# Altium schematic symbol library WE-SPXO.SchLib: 233 symbols (part 3 of 4)
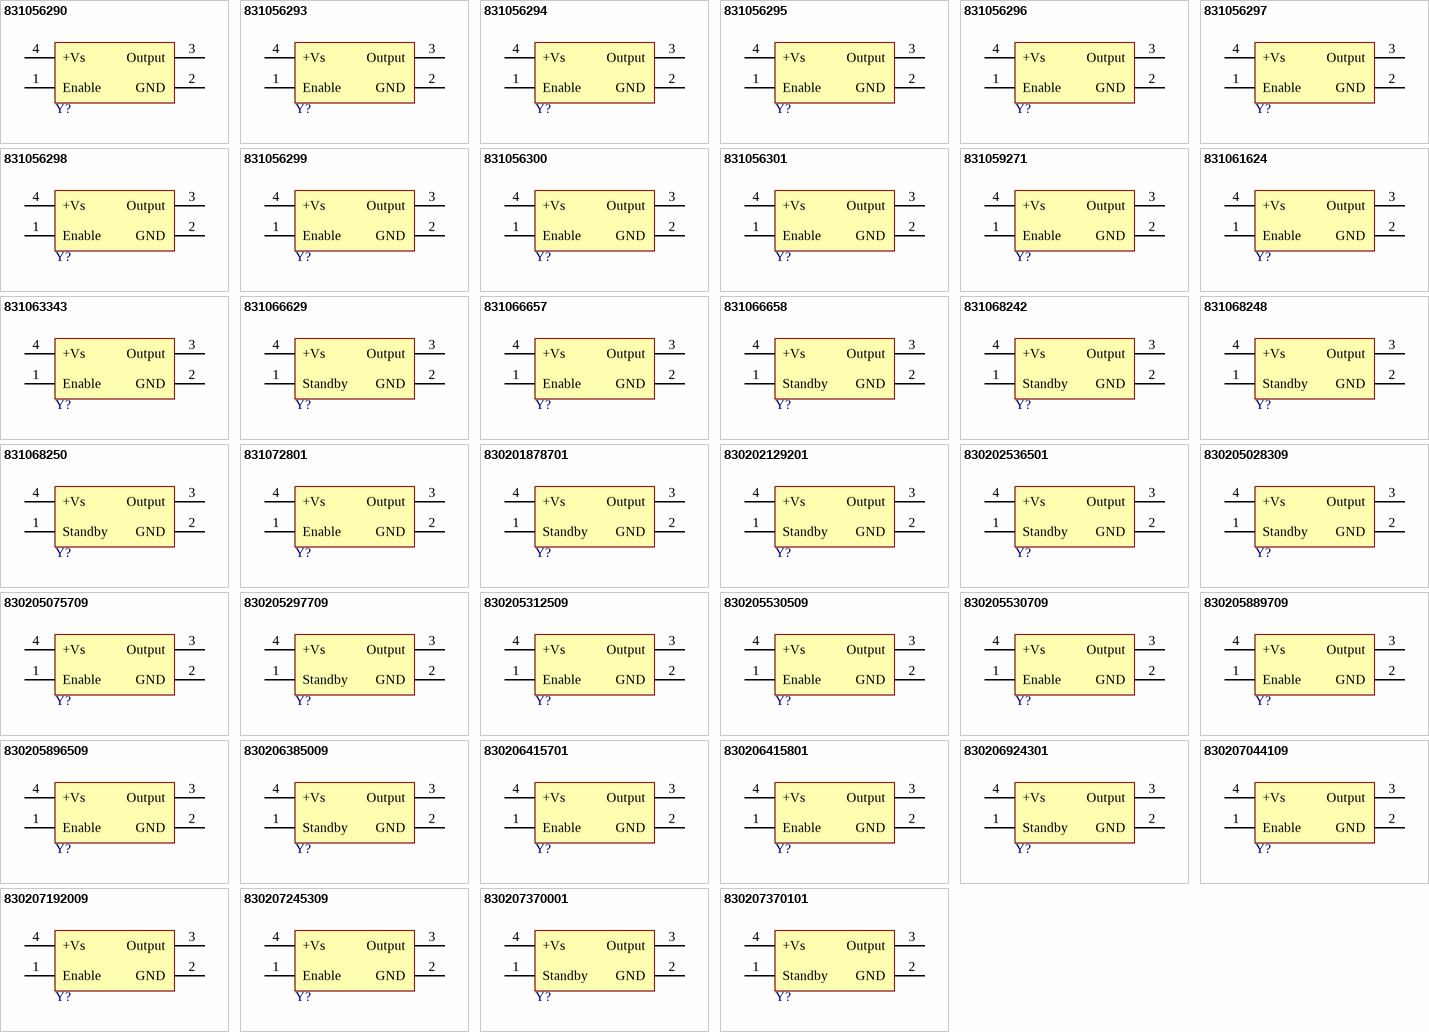
[diagram p7: symbols 831056290 to 830207370101]

## 831056294
designator Y?, comment 24MHz, 3.3V  (value not drawn)
WE-SPXO Simple Packaged Quartz Oscillator, SMT, IQXO-791, 24MHz, 3.3V; Manufacturer Part Number: 831056294; Manufacturer: Wurth Elektronik; Frequency Stability: +/-50ppm; ComponentLink1Description: Website Link; ComponentLink1URL: https://www.we-online.com/redexpert/article/831056294?ad; ComponentLink2Description: Datasheet Link; ComponentLink2URL: https://www.we-online.com/redexpert/spec/831056294?ad; Category: Oscillators; Match Code: WE-SPXO; Mount: Surface Mount; Operating Temperature Max: 85°C; Operating Temperature Min: -40°C; Packaging: Tape and Reel; Case/Size Code: IQXO-791; Length: 2.5mm; Width: 2mm; Height: 1mm; Frequency: 24MHz; Supply Voltage: 3.3V
footprint WE-SPXO_IQXO-791
pins: 1 Enable, 2 GND, 3 Output, 4 +Vs

## 831056295
designator Y?, comment 24.576MHz, 3.3V  (value not drawn)
WE-SPXO Simple Packaged Quartz Oscillator, SMT, IQXO-791, 24.576MHz, 3.3V; Manufacturer Part Number: 831056295; Manufacturer: Wurth Elektronik; Frequency Stability: +/-50ppm; ComponentLink1Description: Website Link; ComponentLink1URL: https://www.we-online.com/redexpert/article/831056295?ad; ComponentLink2Description: Datasheet Link; ComponentLink2URL: https://www.we-online.com/redexpert/spec/831056295?ad; Category: Oscillators; Match Code: WE-SPXO; Mount: Surface Mount; Operating Temperature Max: 85°C; Operating Temperature Min: -40°C; Packaging: Tape and Reel; Case/Size Code: IQXO-791; Length: 2.5mm; Width: 2mm; Height: 1mm; Frequency: 24.576MHz; Supply Voltage: 3.3V
footprint WE-SPXO_IQXO-791
pins: 1 Enable, 2 GND, 3 Output, 4 +Vs

## 831056296
designator Y?, comment 25MHz, 3.3V  (value not drawn)
WE-SPXO Simple Packaged Quartz Oscillator, SMT, IQXO-791, 25MHz, 3.3V; Manufacturer Part Number: 831056296; Manufacturer: Wurth Elektronik; Frequency Stability: +/-50ppm; ComponentLink1Description: Website Link; ComponentLink1URL: https://www.we-online.com/redexpert/article/831056296?ad; ComponentLink2Description: Datasheet Link; ComponentLink2URL: https://www.we-online.com/redexpert/spec/831056296?ad; Category: Oscillators; Match Code: WE-SPXO; Mount: Surface Mount; Operating Temperature Max: 85°C; Operating Temperature Min: -40°C; Packaging: Tape and Reel; Case/Size Code: IQXO-791; Length: 2.5mm; Width: 2mm; Height: 1mm; Frequency: 25MHz; Supply Voltage: 3.3V
footprint WE-SPXO_IQXO-791
pins: 1 Enable, 2 GND, 3 Output, 4 +Vs

## 831056297
designator Y?, comment 26MHz, 3.3V  (value not drawn)
WE-SPXO Simple Packaged Quartz Oscillator, SMT, IQXO-791, 26MHz, 3.3V; Manufacturer Part Number: 831056297; Manufacturer: Wurth Elektronik; Frequency Stability: +/-50ppm; ComponentLink1Description: Website Link; ComponentLink1URL: https://www.we-online.com/redexpert/article/831056297?ad; ComponentLink2Description: Datasheet Link; ComponentLink2URL: https://www.we-online.com/redexpert/spec/831056297?ad; Category: Oscillators; Match Code: WE-SPXO; Mount: Surface Mount; Operating Temperature Max: 85°C; Operating Temperature Min: -40°C; Packaging: Tape and Reel; Case/Size Code: IQXO-791; Length: 2.5mm; Width: 2mm; Height: 1mm; Frequency: 26MHz; Supply Voltage: 3.3V
footprint WE-SPXO_IQXO-791
pins: 1 Enable, 2 GND, 3 Output, 4 +Vs

## 831056298
designator Y?, comment 27MHz, 3.3V  (value not drawn)
WE-SPXO Simple Packaged Quartz Oscillator, SMT, IQXO-791, 27MHz, 3.3V; Manufacturer Part Number: 831056298; Manufacturer: Wurth Elektronik; Frequency Stability: +/-50ppm; ComponentLink1Description: Website Link; ComponentLink1URL: https://www.we-online.com/redexpert/article/831056298?ad; ComponentLink2Description: Datasheet Link; ComponentLink2URL: https://www.we-online.com/redexpert/spec/831056298?ad; Category: Oscillators; Match Code: WE-SPXO; Mount: Surface Mount; Operating Temperature Max: 85°C; Operating Temperature Min: -40°C; Packaging: Tape and Reel; Case/Size Code: IQXO-791; Length: 2.5mm; Width: 2mm; Height: 1mm; Frequency: 27MHz; Supply Voltage: 3.3V
footprint WE-SPXO_IQXO-791
pins: 1 Enable, 2 GND, 3 Output, 4 +Vs

## 831056299
designator Y?, comment 40MHz, 3.3V  (value not drawn)
WE-SPXO Simple Packaged Quartz Oscillator, SMT, IQXO-791, 40MHz, 3.3V; Manufacturer Part Number: 831056299; Manufacturer: Wurth Elektronik; Frequency Stability: +/-50ppm; ComponentLink1Description: Website Link; ComponentLink1URL: https://www.we-online.com/redexpert/article/831056299?ad; ComponentLink2Description: Datasheet Link; ComponentLink2URL: https://www.we-online.com/redexpert/spec/831056299?ad; Category: Oscillators; Match Code: WE-SPXO; Mount: Surface Mount; Operating Temperature Max: 85°C; Operating Temperature Min: -40°C; Packaging: Tape and Reel; Case/Size Code: IQXO-791; Length: 2.5mm; Width: 2mm; Height: 1mm; Frequency: 40MHz; Supply Voltage: 3.3V
footprint WE-SPXO_IQXO-791
pins: 1 Enable, 2 GND, 3 Output, 4 +Vs

## 831056300
designator Y?, comment 48MHz, 3.3V  (value not drawn)
WE-SPXO Simple Packaged Quartz Oscillator, SMT, IQXO-791, 48MHz, 3.3V; Manufacturer Part Number: 831056300; Manufacturer: Wurth Elektronik; Frequency Stability: +/-50ppm; ComponentLink1Description: Website Link; ComponentLink1URL: https://www.we-online.com/redexpert/article/831056300?ad; ComponentLink2Description: Datasheet Link; ComponentLink2URL: https://www.we-online.com/redexpert/spec/831056300?ad; Category: Oscillators; Match Code: WE-SPXO; Mount: Surface Mount; Operating Temperature Max: 85°C; Operating Temperature Min: -40°C; Packaging: Tape and Reel; Case/Size Code: IQXO-791; Length: 2.5mm; Width: 2mm; Height: 1mm; Frequency: 48MHz; Supply Voltage: 3.3V
footprint WE-SPXO_IQXO-791
pins: 1 Enable, 2 GND, 3 Output, 4 +Vs

## 831056301
designator Y?, comment 50MHz, 3.3V  (value not drawn)
WE-SPXO Simple Packaged Quartz Oscillator, SMT, IQXO-791, 50MHz, 3.3V; Manufacturer Part Number: 831056301; Manufacturer: Wurth Elektronik; Frequency Stability: +/-50ppm; ComponentLink1Description: Website Link; ComponentLink1URL: https://www.we-online.com/redexpert/article/831056301?ad; ComponentLink2Description: Datasheet Link; ComponentLink2URL: https://www.we-online.com/redexpert/spec/831056301?ad; Category: Oscillators; Match Code: WE-SPXO; Mount: Surface Mount; Operating Temperature Max: 85°C; Operating Temperature Min: -40°C; Packaging: Tape and Reel; Case/Size Code: IQXO-791; Length: 2.5mm; Width: 2mm; Height: 1mm; Frequency: 50MHz; Supply Voltage: 3.3V
footprint WE-SPXO_IQXO-791
pins: 1 Enable, 2 GND, 3 Output, 4 +Vs

## 831059271
designator Y?, comment 10MHz, 3.3V  (value not drawn)
WE-SPXO Simple Packaged Quartz Oscillator, SMT, CFPS-39, 10MHz, 3.3V; Manufacturer Part Number: 831059271; Manufacturer: Wurth Elektronik; Frequency Stability: +/-25ppm; ComponentLink1Description: Website Link; ComponentLink1URL: https://www.we-online.com/redexpert/article/831059271?ad; ComponentLink2Description: Datasheet Link; ComponentLink2URL: https://www.we-online.com/redexpert/spec/831059271?ad; Category: Oscillators; Match Code: WE-SPXO; Mount: Surface Mount; Operating Temperature Max: 85°C; Operating Temperature Min: -40°C; Packaging: Tape and Reel; Case/Size Code: CFPS-39; Length: 3.2mm; Width: 2.5mm; Height: 1.2mm; Frequency: 10MHz; Supply Voltage: 3.3V
footprint WE-SPXO_CFPS-39
pins: 1 Enable, 2 GND, 3 Output, 4 +Vs

## 831061624
designator Y?, comment 10MHz, 3.3V  (value not drawn)
WE-SPXO Simple Packaged Quartz Oscillator, SMT, IQXO-791, 10MHz, 3.3V; Manufacturer Part Number: 831061624; Manufacturer: Wurth Elektronik; Frequency Stability: +/-50ppm; ComponentLink1Description: Website Link; ComponentLink1URL: https://www.we-online.com/redexpert/article/831061624?ad; ComponentLink2Description: Datasheet Link; ComponentLink2URL: https://www.we-online.com/redexpert/spec/831061624?ad; Category: Oscillators; Match Code: WE-SPXO; Mount: Surface Mount; Operating Temperature Max: 85°C; Operating Temperature Min: -40°C; Packaging: Tape and Reel; Case/Size Code: IQXO-791; Length: 2.5mm; Width: 2mm; Height: 1mm; Frequency: 10MHz; Supply Voltage: 3.3V
footprint WE-SPXO_IQXO-791
pins: 1 Enable, 2 GND, 3 Output, 4 +Vs

## 831063343
designator Y?, comment 20MHz, 3.3V  (value not drawn)
WE-SPXO Simple Packaged Quartz Oscillator, SMT, CFPS-39, 20MHz, 3.3V; Manufacturer Part Number: 831063343; Manufacturer: Wurth Elektronik; Frequency Stability: +/-25ppm; ComponentLink1Description: Website Link; ComponentLink1URL: https://www.we-online.com/redexpert/article/831063343?ad; ComponentLink2Description: Datasheet Link; ComponentLink2URL: https://www.we-online.com/redexpert/spec/831063343?ad; Category: Oscillators; Match Code: WE-SPXO; Mount: Surface Mount; Operating Temperature Max: 85°C; Operating Temperature Min: -40°C; Packaging: Tape and Reel; Case/Size Code: CFPS-39; Length: 3.2mm; Width: 2.5mm; Height: 1.2mm; Frequency: 20MHz; Supply Voltage: 3.3V
footprint WE-SPXO_CFPS-39
pins: 1 Enable, 2 GND, 3 Output, 4 +Vs

## 831066629
designator Y?, comment 16MHz, 3.3V  (value not drawn)
WE-SPXO Simple Packaged Quartz Oscillator, SMT, IQXO-540, 16MHz, 3.3V; Manufacturer Part Number: 831066629; Manufacturer: Wurth Elektronik; Frequency Stability: +/-50ppm; ComponentLink1Description: Website Link; ComponentLink1URL: https://www.we-online.com/redexpert/article/831066629?ad; ComponentLink2Description: Datasheet Link; ComponentLink2URL: https://www.we-online.com/redexpert/spec/831066629?ad; Category: Oscillators; Match Code: WE-SPXO; Mount: Surface Mount; Operating Temperature Max: 85°C; Operating Temperature Min: -40°C; Packaging: Tape and Reel; Case/Size Code: IQXO-540; Length: 2mm; Width: 1.6mm; Height: 0.7mm; Frequency: 16MHz; Supply Voltage: 3.3V
footprint WE-SPXO_IQXO-540
pins: 1 Standby, 2 GND, 3 Output, 4 +Vs

## 831066657
designator Y?, comment 16MHz, 3.3V  (value not drawn)
WE-SPXO Simple Packaged Quartz Oscillator, SMT, IQXO-791, 16MHz, 3.3V; Manufacturer Part Number: 831066657; Manufacturer: Wurth Elektronik; Frequency Stability: +/-50ppm; ComponentLink1Description: Website Link; ComponentLink1URL: https://www.we-online.com/redexpert/article/831066657?ad; ComponentLink2Description: Datasheet Link; ComponentLink2URL: https://www.we-online.com/redexpert/spec/831066657?ad; Category: Oscillators; Match Code: WE-SPXO; Mount: Surface Mount; Operating Temperature Max: 85°C; Operating Temperature Min: -40°C; Packaging: Tape and Reel; Case/Size Code: IQXO-791; Length: 2.5mm; Width: 2mm; Height: 1mm; Frequency: 16MHz; Supply Voltage: 3.3V
footprint WE-SPXO_IQXO-791
pins: 1 Enable, 2 GND, 3 Output, 4 +Vs

## 831066658
designator Y?, comment 16MHz, 1.8V  (value not drawn)
WE-SPXO Simple Packaged Quartz Oscillator, SMT, IQXO-794, 16MHz, 1.8V; Manufacturer Part Number: 831066658; Manufacturer: Wurth Elektronik; Frequency Stability: +/-50ppm; ComponentLink1Description: Website Link; ComponentLink1URL: https://www.we-online.com/redexpert/article/831066658?ad; ComponentLink2Description: Datasheet Link; ComponentLink2URL: https://www.we-online.com/redexpert/spec/831066658?ad; Category: Oscillators; Match Code: WE-SPXO; Mount: Surface Mount; Operating Temperature Max: 85°C; Operating Temperature Min: -40°C; Packaging: Tape and Reel; Case/Size Code: IQXO-794; Length: 2.5mm; Width: 2mm; Height: 1mm; Frequency: 16MHz; Supply Voltage: 1.8V
footprint WE-SPXO_IQXO-794
pins: 1 Standby, 2 GND, 3 Output, 4 +Vs

## 831068242
designator Y?, comment 8MHz, 3.3V  (value not drawn)
WE-SPXO Simple Packaged Quartz Oscillator, SMT, IQXO-540, 8MHz, 3.3V; Manufacturer Part Number: 831068242; Manufacturer: Wurth Elektronik; Frequency Stability: +/-50ppm; ComponentLink1Description: Website Link; ComponentLink1URL: https://www.we-online.com/redexpert/article/831068242?ad; ComponentLink2Description: Datasheet Link; ComponentLink2URL: https://www.we-online.com/redexpert/spec/831068242?ad; Category: Oscillators; Match Code: WE-SPXO; Mount: Surface Mount; Operating Temperature Max: 85°C; Operating Temperature Min: -40°C; Packaging: Tape and Reel; Case/Size Code: IQXO-540; Length: 2mm; Width: 1.6mm; Height: 0.7mm; Frequency: 8MHz; Supply Voltage: 3.3V
footprint WE-SPXO_IQXO-540
pins: 1 Standby, 2 GND, 3 Output, 4 +Vs

## 831068248
designator Y?, comment 32MHz, 3.3V  (value not drawn)
WE-SPXO Simple Packaged Quartz Oscillator, SMT, IQXO-540, 32MHz, 3.3V; Manufacturer Part Number: 831068248; Manufacturer: Wurth Elektronik; Frequency Stability: +/-50ppm; ComponentLink1Description: Website Link; ComponentLink1URL: https://www.we-online.com/redexpert/article/831068248?ad; ComponentLink2Description: Datasheet Link; ComponentLink2URL: https://www.we-online.com/redexpert/spec/831068248?ad; Category: Oscillators; Match Code: WE-SPXO; Mount: Surface Mount; Operating Temperature Max: 85°C; Operating Temperature Min: -40°C; Packaging: Tape and Reel; Case/Size Code: IQXO-540; Length: 2mm; Width: 1.6mm; Height: 0.7mm; Frequency: 32MHz; Supply Voltage: 3.3V
footprint WE-SPXO_IQXO-540
pins: 1 Standby, 2 GND, 3 Output, 4 +Vs

## 831068250
designator Y?, comment 38.4MHz, 3.3V  (value not drawn)
WE-SPXO Simple Packaged Quartz Oscillator, SMT, IQXO-540, 38.4MHz, 3.3V; Manufacturer Part Number: 831068250; Manufacturer: Wurth Elektronik; Frequency Stability: +/-50ppm; ComponentLink1Description: Website Link; ComponentLink1URL: https://www.we-online.com/redexpert/article/831068250?ad; ComponentLink2Description: Datasheet Link; ComponentLink2URL: https://www.we-online.com/redexpert/spec/831068250?ad; Category: Oscillators; Match Code: WE-SPXO; Mount: Surface Mount; Operating Temperature Max: 85°C; Operating Temperature Min: -40°C; Packaging: Tape and Reel; Case/Size Code: IQXO-540; Length: 2mm; Width: 1.6mm; Height: 0.7mm; Frequency: 38.4MHz; Supply Voltage: 3.3V
footprint WE-SPXO_IQXO-540
pins: 1 Standby, 2 GND, 3 Output, 4 +Vs

## 831072801
designator Y?, comment 8MHz, 3.3V  (value not drawn)
WE-SPXO Simple Packaged Quartz Oscillator, SMT, IQXO-791, 8MHz, 3.3V; Manufacturer Part Number: 831072801; Manufacturer: Wurth Elektronik; Frequency Stability: +/-50ppm; ComponentLink1Description: Website Link; ComponentLink1URL: https://www.we-online.com/redexpert/article/831072801?ad; ComponentLink2Description: Datasheet Link; ComponentLink2URL: https://www.we-online.com/redexpert/spec/831072801?ad; Category: Oscillators; Match Code: WE-SPXO; Mount: Surface Mount; Operating Temperature Max: 85°C; Operating Temperature Min: -40°C; Packaging: Tape and Reel; Case/Size Code: IQXO-791; Length: 2.5mm; Width: 2mm; Height: 1mm; Frequency: 8MHz; Supply Voltage: 3.3V
footprint WE-SPXO_IQXO-791
pins: 1 Enable, 2 GND, 3 Output, 4 +Vs

## 830201878701
designator Y?, comment 20MHz, 5V  (value not drawn)
WE-SPXO Simple Packaged Quartz Oscillator, SMT, CFPS-72, 20MHz, 5V; Manufacturer Part Number: 830201878701; Manufacturer: Wurth Elektronik; Frequency Stability: +/-50ppm; ComponentLink1Description: Website Link; ComponentLink1URL: https://www.we-online.com/redexpert/article/830201878701?ad; ComponentLink2Description: Datasheet Link; ComponentLink2URL: https://www.we-online.com/redexpert/spec/830201878701?ad; Category: Oscillators; Match Code: WE-SPXO; Mount: Surface Mount; Operating Temperature Max: 85°C; Operating Temperature Min: -40°C; Packaging: Tape and Reel; Case/Size Code: CFPS-72; Length: 7.2mm; Width: 5.2mm; Height: 1.4mm; Frequency: 20MHz; Supply Voltage: 5V
footprint WE-SPXO_CFPS-72
pins: 1 Standby, 2 GND, 3 Output, 4 +Vs

## 830202129201
designator Y?, comment 8MHz, 5V  (value not drawn)
WE-SPXO Simple Packaged Quartz Oscillator, SMT, CFPS-72, 8MHz, 5V; Manufacturer Part Number: 830202129201; Manufacturer: Wurth Elektronik; Frequency Stability: +/-50ppm; ComponentLink1Description: Website Link; ComponentLink1URL: https://www.we-online.com/redexpert/article/830202129201?ad; ComponentLink2Description: Datasheet Link; ComponentLink2URL: https://www.we-online.com/redexpert/spec/830202129201?ad; Category: Oscillators; Match Code: WE-SPXO; Mount: Surface Mount; Operating Temperature Max: 85°C; Operating Temperature Min: -40°C; Packaging: Tape and Reel; Case/Size Code: CFPS-72; Length: 7.2mm; Width: 5.2mm; Height: 1.4mm; Frequency: 8MHz; Supply Voltage: 5V
footprint WE-SPXO_CFPS-72
pins: 1 Standby, 2 GND, 3 Output, 4 +Vs

## 830202536501
designator Y?, comment 10MHz, 5V  (value not drawn)
WE-SPXO Simple Packaged Quartz Oscillator, SMT, CFPS-72, 10MHz, 5V; Manufacturer Part Number: 830202536501; Manufacturer: Wurth Elektronik; Frequency Stability: +/-25ppm; ComponentLink1Description: Website Link; ComponentLink1URL: https://www.we-online.com/redexpert/article/830202536501?ad; ComponentLink2Description: Datasheet Link; ComponentLink2URL: https://www.we-online.com/redexpert/spec/830202536501?ad; Category: Oscillators; Match Code: WE-SPXO; Mount: Surface Mount; Operating Temperature Max: 85°C; Operating Temperature Min: -40°C; Packaging: Tape and Reel; Case/Size Code: CFPS-72; Length: 7.2mm; Width: 5.2mm; Height: 1.4mm; Frequency: 10MHz; Supply Voltage: 5V
footprint WE-SPXO_CFPS-72_830202536501
pins: 1 Standby, 2 GND, 3 Output, 4 +Vs

## 830205028309
designator Y?, comment 32.768kHz, 3.3V  (value not drawn)
WE-SPXO Simple Packaged Quartz Oscillator, SMT, CFPS-104, 32.768kHz, 3.3V; Manufacturer Part Number: 830205028309; Manufacturer: Wurth Elektronik; Frequency Stability: +/-25ppm; ComponentLink1Description: Website Link; ComponentLink1URL: https://www.we-online.com/redexpert/article/830205028309?ad; ComponentLink2Description: Datasheet Link; ComponentLink2URL: https://www.we-online.com/redexpert/spec/830205028309?ad; Category: Oscillators; Match Code: WE-SPXO; Mount: Surface Mount; Operating Temperature Max: 85°C; Operating Temperature Min: -40°C; Packaging: Tape and Reel; Case/Size Code: CFPS-104; Length: 3.4mm; Width: 2.7mm; Height: 1.2mm; Frequency: 32.768kHz; Supply Voltage: 3.3V
footprint WE-SPXO_CFPS-104
pins: 1 Standby, 2 GND, 3 Output, 4 +Vs

## 830205075709
designator Y?, comment 40MHz, 3.3V  (value not drawn)
WE-SPXO Simple Packaged Quartz Oscillator, SMT, CFPS-39, 40MHz, 3.3V; Manufacturer Part Number: 830205075709; Manufacturer: Wurth Elektronik; Frequency Stability: +/-25ppm; ComponentLink1Description: Website Link; ComponentLink1URL: https://www.we-online.com/redexpert/article/830205075709?ad; ComponentLink2Description: Datasheet Link; ComponentLink2URL: https://www.we-online.com/redexpert/spec/830205075709?ad; Category: Oscillators; Match Code: WE-SPXO; Mount: Surface Mount; Operating Temperature Max: 85°C; Operating Temperature Min: -40°C; Packaging: Tape and Reel; Case/Size Code: CFPS-39; Length: 3.2mm; Width: 2.5mm; Height: 1.2mm; Frequency: 40MHz; Supply Voltage: 3.3V
footprint WE-SPXO_CFPS-39
pins: 1 Enable, 2 GND, 3 Output, 4 +Vs

## 830205297709
designator Y?, comment 32.768kHz, 1.8V  (value not drawn)
WE-SPXO Simple Packaged Quartz Oscillator, SMT, CFPS-102, 32.768kHz, 1.8V; Manufacturer Part Number: 830205297709; Manufacturer: Wurth Elektronik; Frequency Stability: +/-25ppm; ComponentLink1Description: Website Link; ComponentLink1URL: https://www.we-online.com/redexpert/article/830205297709?ad; ComponentLink2Description: Datasheet Link; ComponentLink2URL: https://www.we-online.com/redexpert/spec/830205297709?ad; Category: Oscillators; Match Code: WE-SPXO; Mount: Surface Mount; Operating Temperature Max: 85°C; Operating Temperature Min: -40°C; Packaging: Tape and Reel; Case/Size Code: CFPS-102; Length: 3.4mm; Width: 2.7mm; Height: 1.2mm; Frequency: 32.768kHz; Supply Voltage: 1.8V
footprint WE-SPXO_CFPS-102
pins: 1 Standby, 2 GND, 3 Output, 4 +Vs

## 830205312509
designator Y?, comment 32MHz, 3.3V  (value not drawn)
WE-SPXO Simple Packaged Quartz Oscillator, SMT, CFPS-39, 32MHz, 3.3V; Manufacturer Part Number: 830205312509; Manufacturer: Wurth Elektronik; Frequency Stability: +/-25ppm; ComponentLink1Description: Website Link; ComponentLink1URL: https://www.we-online.com/redexpert/article/830205312509?ad; ComponentLink2Description: Datasheet Link; ComponentLink2URL: https://www.we-online.com/redexpert/spec/830205312509?ad; Category: Oscillators; Match Code: WE-SPXO; Mount: Surface Mount; Operating Temperature Max: 85°C; Operating Temperature Min: -40°C; Packaging: Tape and Reel; Case/Size Code: CFPS-39; Length: 3.2mm; Width: 2.5mm; Height: 1.2mm; Frequency: 32MHz; Supply Voltage: 3.3V
footprint WE-SPXO_CFPS-39
pins: 1 Enable, 2 GND, 3 Output, 4 +Vs

## 830205530509
designator Y?, comment 12MHz, 3.3V  (value not drawn)
WE-SPXO Simple Packaged Quartz Oscillator, SMT, CFPS-39, 12MHz, 3.3V; Manufacturer Part Number: 830205530509; Manufacturer: Wurth Elektronik; Frequency Stability: +/-25ppm; ComponentLink1Description: Website Link; ComponentLink1URL: https://www.we-online.com/redexpert/article/830205530509?ad; ComponentLink2Description: Datasheet Link; ComponentLink2URL: https://www.we-online.com/redexpert/spec/830205530509?ad; Category: Oscillators; Match Code: WE-SPXO; Mount: Surface Mount; Operating Temperature Max: 85°C; Operating Temperature Min: -40°C; Packaging: Tape and Reel; Case/Size Code: CFPS-39; Length: 3.2mm; Width: 2.5mm; Height: 1.2mm; Frequency: 12MHz; Supply Voltage: 3.3V
footprint WE-SPXO_CFPS-39
pins: 1 Enable, 2 GND, 3 Output, 4 +Vs

## 830205530709
designator Y?, comment 27MHz, 3.3V  (value not drawn)
WE-SPXO Simple Packaged Quartz Oscillator, SMT, CFPS-39, 27MHz, 3.3V; Manufacturer Part Number: 830205530709; Manufacturer: Wurth Elektronik; Frequency Stability: +/-25ppm; ComponentLink1Description: Website Link; ComponentLink1URL: https://www.we-online.com/redexpert/article/830205530709?ad; ComponentLink2Description: Datasheet Link; ComponentLink2URL: https://www.we-online.com/redexpert/spec/830205530709?ad; Category: Oscillators; Match Code: WE-SPXO; Mount: Surface Mount; Operating Temperature Max: 85°C; Operating Temperature Min: -40°C; Packaging: Tape and Reel; Case/Size Code: CFPS-39; Length: 3.2mm; Width: 2.5mm; Height: 1.2mm; Frequency: 27MHz; Supply Voltage: 3.3V
footprint WE-SPXO_CFPS-39
pins: 1 Enable, 2 GND, 3 Output, 4 +Vs

## 830205889709
designator Y?, comment 16MHz, 3.3V  (value not drawn)
WE-SPXO Simple Packaged Quartz Oscillator, SMT, CFPS-39, 16MHz, 3.3V; Manufacturer Part Number: 830205889709; Manufacturer: Wurth Elektronik; Frequency Stability: +/-25ppm; ComponentLink1Description: Website Link; ComponentLink1URL: https://www.we-online.com/redexpert/article/830205889709?ad; ComponentLink2Description: Datasheet Link; ComponentLink2URL: https://www.we-online.com/redexpert/spec/830205889709?ad; Category: Oscillators; Match Code: WE-SPXO; Mount: Surface Mount; Operating Temperature Max: 85°C; Operating Temperature Min: -40°C; Packaging: Tape and Reel; Case/Size Code: CFPS-39; Length: 3.2mm; Width: 2.5mm; Height: 1.2mm; Frequency: 16MHz; Supply Voltage: 3.3V
footprint WE-SPXO_CFPS-39
pins: 1 Enable, 2 GND, 3 Output, 4 +Vs

## 830205896509
designator Y?, comment 24MHz, 3.3V  (value not drawn)
WE-SPXO Simple Packaged Quartz Oscillator, SMT, CFPS-39, 24MHz, 3.3V; Manufacturer Part Number: 830205896509; Manufacturer: Wurth Elektronik; Frequency Stability: +/-25ppm; ComponentLink1Description: Website Link; ComponentLink1URL: https://www.we-online.com/redexpert/article/830205896509?ad; ComponentLink2Description: Datasheet Link; ComponentLink2URL: https://www.we-online.com/redexpert/spec/830205896509?ad; Category: Oscillators; Match Code: WE-SPXO; Mount: Surface Mount; Operating Temperature Max: 85°C; Operating Temperature Min: -40°C; Packaging: Tape and Reel; Case/Size Code: CFPS-39; Length: 3.2mm; Width: 2.5mm; Height: 1.2mm; Frequency: 24MHz; Supply Voltage: 3.3V
footprint WE-SPXO_CFPS-39
pins: 1 Enable, 2 GND, 3 Output, 4 +Vs

## 830206385009
designator Y?, comment 32.768kHz, 1.8V  (value not drawn)
WE-SPXO Simple Packaged Quartz Oscillator, SMT, CFPS-107, 32.768kHz, 1.8V; Manufacturer Part Number: 830206385009; Manufacturer: Wurth Elektronik; Frequency Stability: +/-30ppm; ComponentLink1Description: Website Link; ComponentLink1URL: https://www.we-online.com/redexpert/article/830206385009?ad; ComponentLink2Description: Datasheet Link; ComponentLink2URL: https://www.we-online.com/redexpert/spec/830206385009?ad; Category: Oscillators; Match Code: WE-SPXO; Mount: Surface Mount; Operating Temperature Max: 85°C; Operating Temperature Min: -40°C; Packaging: Tape and Reel; Case/Size Code: CFPS-107; Length: 2.6mm; Width: 2.1mm; Height: 0.95mm; Frequency: 32.768kHz; Supply Voltage: 1.8V
footprint WE-SPXO_CFPS-107
pins: 1 Standby, 2 GND, 3 Output, 4 +Vs

## 830206415701
designator Y?, comment 40MHz, 3.3V  (value not drawn)
WE-SPXO Simple Packaged Quartz Oscillator, SMT, IQXO-791, 40MHz, 3.3V; Manufacturer Part Number: 830206415701; Manufacturer: Wurth Elektronik; Frequency Stability: +/-25ppm; ComponentLink1Description: Website Link; ComponentLink1URL: https://www.we-online.com/redexpert/article/830206415701?ad; ComponentLink2Description: Datasheet Link; ComponentLink2URL: https://www.we-online.com/redexpert/spec/830206415701?ad; Category: Oscillators; Match Code: WE-SPXO; Mount: Surface Mount; Operating Temperature Max: 70°C; Operating Temperature Min: -20°C; Packaging: Tape and Reel; Case/Size Code: IQXO-791; Length: 2.5mm; Width: 2mm; Height: 1mm; Frequency: 40MHz; Supply Voltage: 3.3V
footprint WE-SPXO_IQXO-791
pins: 1 Enable, 2 GND, 3 Output, 4 +Vs

## 830206415801
designator Y?, comment 32MHz, 3.3V  (value not drawn)
WE-SPXO Simple Packaged Quartz Oscillator, SMT, IQXO-791, 32MHz, 3.3V; Manufacturer Part Number: 830206415801; Manufacturer: Wurth Elektronik; Frequency Stability: +/-25ppm; ComponentLink1Description: Website Link; ComponentLink1URL: https://www.we-online.com/redexpert/article/830206415801?ad; ComponentLink2Description: Datasheet Link; ComponentLink2URL: https://www.we-online.com/redexpert/spec/830206415801?ad; Category: Oscillators; Match Code: WE-SPXO; Mount: Surface Mount; Operating Temperature Max: 70°C; Operating Temperature Min: -20°C; Packaging: Tape and Reel; Case/Size Code: IQXO-791; Length: 2.5mm; Width: 2mm; Height: 1mm; Frequency: 32MHz; Supply Voltage: 3.3V
footprint WE-SPXO_IQXO-791
pins: 1 Enable, 2 GND, 3 Output, 4 +Vs

## 830206924301
designator Y?, comment 50MHz, 1.8V  (value not drawn)
WE-SPXO Simple Packaged Quartz Oscillator, SMT, IQXO-794, 50MHz, 1.8V; Manufacturer Part Number: 830206924301; Manufacturer: Wurth Elektronik; Frequency Stability: +/-25ppm; ComponentLink1Description: Website Link; ComponentLink1URL: https://www.we-online.com/redexpert/article/830206924301?ad; ComponentLink2Description: Datasheet Link; ComponentLink2URL: https://www.we-online.com/redexpert/spec/830206924301?ad; Category: Oscillators; Match Code: WE-SPXO; Mount: Surface Mount; Operating Temperature Max: 70°C; Operating Temperature Min: -20°C; Packaging: Tape and Reel; Case/Size Code: IQXO-794; Length: 2.5mm; Width: 2mm; Height: 1mm; Frequency: 50MHz; Supply Voltage: 1.8V
footprint WE-SPXO_IQXO-794
pins: 1 Standby, 2 GND, 3 Output, 4 +Vs

## 830207044109
designator Y?, comment 100MHz, 3.3V  (value not drawn)
WE-SPXO Simple Packaged Quartz Oscillator, SMT, CFPS-39, 100MHz, 3.3V; Manufacturer Part Number: 830207044109; Manufacturer: Wurth Elektronik; Frequency Stability: +/-25ppm; ComponentLink1Description: Website Link; ComponentLink1URL: https://www.we-online.com/redexpert/article/830207044109?ad; ComponentLink2Description: Datasheet Link; ComponentLink2URL: https://www.we-online.com/redexpert/spec/830207044109?ad; Category: Oscillators; Match Code: WE-SPXO; Mount: Surface Mount; Operating Temperature Max: 85°C; Operating Temperature Min: -40°C; Packaging: Tape and Reel; Case/Size Code: CFPS-39; Length: 3.2mm; Width: 2.5mm; Height: 1.2mm; Frequency: 100MHz; Supply Voltage: 3.3V
footprint WE-SPXO_CFPS-39
pins: 1 Enable, 2 GND, 3 Output, 4 +Vs

## 830207192009
designator Y?, comment 8MHz, 3.3V  (value not drawn)
WE-SPXO Simple Packaged Quartz Oscillator, SMT, CFPS-39, 8MHz, 3.3V; Manufacturer Part Number: 830207192009; Manufacturer: Wurth Elektronik; Frequency Stability: +/-25ppm; ComponentLink1Description: Website Link; ComponentLink1URL: https://www.we-online.com/redexpert/article/830207192009?ad; ComponentLink2Description: Datasheet Link; ComponentLink2URL: https://www.we-online.com/redexpert/spec/830207192009?ad; Category: Oscillators; Match Code: WE-SPXO; Mount: Surface Mount; Operating Temperature Max: 85°C; Operating Temperature Min: -40°C; Packaging: Tape and Reel; Case/Size Code: CFPS-39; Length: 3.2mm; Width: 2.5mm; Height: 1.2mm; Frequency: 8MHz; Supply Voltage: 3.3V
footprint WE-SPXO_CFPS-39
pins: 1 Enable, 2 GND, 3 Output, 4 +Vs

## 830207245309
designator Y?, comment 26MHz, 3.3V  (value not drawn)
WE-SPXO Simple Packaged Quartz Oscillator, SMT, CFPS-39, 26MHz, 3.3V; Manufacturer Part Number: 830207245309; Manufacturer: Wurth Elektronik; Frequency Stability: +/-25ppm; ComponentLink1Description: Website Link; ComponentLink1URL: https://www.we-online.com/redexpert/article/830207245309?ad; ComponentLink2Description: Datasheet Link; ComponentLink2URL: https://www.we-online.com/redexpert/spec/830207245309?ad; Category: Oscillators; Match Code: WE-SPXO; Mount: Surface Mount; Operating Temperature Max: 85°C; Operating Temperature Min: -40°C; Packaging: Tape and Reel; Case/Size Code: CFPS-39; Length: 3.2mm; Width: 2.5mm; Height: 1.2mm; Frequency: 26MHz; Supply Voltage: 3.3V
footprint WE-SPXO_CFPS-39
pins: 1 Enable, 2 GND, 3 Output, 4 +Vs

## 830207370001
designator Y?, comment 32.768kHz, 3.3V  (value not drawn)
WE-SPXO Simple Packaged Quartz Oscillator, SMT, IQXO-402, 32.768kHz, 3.3V; Manufacturer Part Number: 830207370001; Manufacturer: Wurth Elektronik; Frequency Stability: +/-30ppm; ComponentLink1Description: Website Link; ComponentLink1URL: https://www.we-online.com/redexpert/article/830207370001?ad; ComponentLink2Description: Datasheet Link; ComponentLink2URL: https://www.we-online.com/redexpert/spec/830207370001?ad; Category: Oscillators; Match Code: WE-SPXO; Mount: Surface Mount; Operating Temperature Max: 85°C; Operating Temperature Min: -40°C; Packaging: Tape and Reel; Case/Size Code: IQXO-402; Length: 2mm; Width: 1.6mm; Height: 0.8mm; Frequency: 32.768kHz; Supply Voltage: 3.3V
footprint WE-SPXO_IQXO-402
pins: 1 Standby, 2 GND, 3 Output, 4 +Vs

## 830207370101
designator Y?, comment 32.768kHz, 3.3V  (value not drawn)
WE-SPXO Simple Packaged Quartz Oscillator, SMT, IQXO-402, 32.768kHz, 3.3V; Manufacturer Part Number: 830207370101; Manufacturer: Wurth Elektronik; Frequency Stability: +/-100ppm; ComponentLink1Description: Website Link; ComponentLink1URL: https://www.we-online.com/redexpert/article/830207370101?ad; ComponentLink2Description: Datasheet Link; ComponentLink2URL: https://www.we-online.com/redexpert/spec/830207370101?ad; Category: Oscillators; Match Code: WE-SPXO; Mount: Surface Mount; Operating Temperature Max: 125°C; Operating Temperature Min: -40°C; Packaging: Tape and Reel; Case/Size Code: IQXO-402; Length: 2mm; Width: 1.6mm; Height: 0.8mm; Frequency: 32.768kHz; Supply Voltage: 3.3V
footprint WE-SPXO_IQXO-402
pins: 1 Standby, 2 GND, 3 Output, 4 +Vs

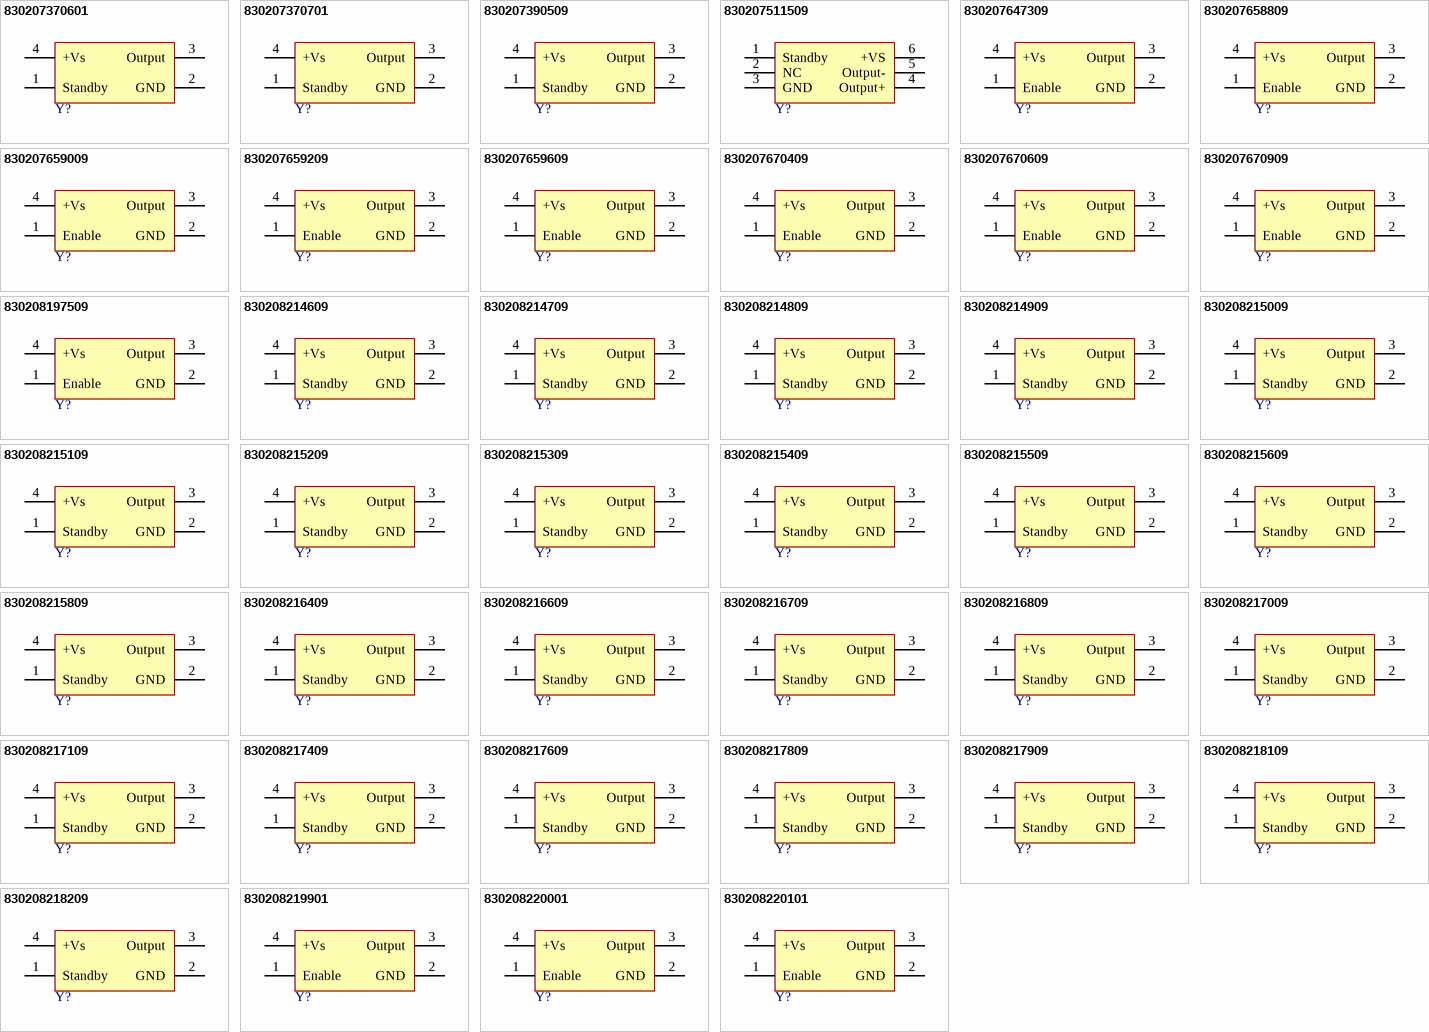
[diagram p4: symbols 830207370601 to 830208220101]

## 830207370601
designator Y?, comment 32.768kHz, 1.8V  (value not drawn)
WE-SPXO Simple Packaged Quartz Oscillator, SMT, IQXO-404, 32.768kHz, 1.8V; Manufacturer Part Number: 830207370601; Manufacturer: Wurth Elektronik; Frequency Stability: +/-30ppm; ComponentLink1Description: Website Link; ComponentLink1URL: https://www.we-online.com/redexpert/article/830207370601?ad; ComponentLink2Description: Datasheet Link; ComponentLink2URL: https://www.we-online.com/redexpert/spec/830207370601?ad; Category: Oscillators; Match Code: WE-SPXO; Mount: Surface Mount; Operating Temperature Max: 85°C; Operating Temperature Min: -40°C; Packaging: Tape and Reel; Case/Size Code: IQXO-404; Length: 2mm; Width: 1.6mm; Height: 0.8mm; Frequency: 32.768kHz; Supply Voltage: 1.8V
footprint WE-SPXO_IQXO-404
pins: 1 Standby, 2 GND, 3 Output, 4 +Vs

## 830207370701
designator Y?, comment 32.768kHz, 1.8V  (value not drawn)
WE-SPXO Simple Packaged Quartz Oscillator, SMT, IQXO-404, 32.768kHz, 1.8V; Manufacturer Part Number: 830207370701; Manufacturer: Wurth Elektronik; Frequency Stability: +/-100ppm; ComponentLink1Description: Website Link; ComponentLink1URL: https://www.we-online.com/redexpert/article/830207370701?ad; ComponentLink2Description: Datasheet Link; ComponentLink2URL: https://www.we-online.com/redexpert/spec/830207370701?ad; Category: Oscillators; Match Code: WE-SPXO; Mount: Surface Mount; Operating Temperature Max: 125°C; Operating Temperature Min: -40°C; Packaging: Tape and Reel; Case/Size Code: IQXO-404; Length: 2mm; Width: 1.6mm; Height: 0.8mm; Frequency: 32.768kHz; Supply Voltage: 1.8V
footprint WE-SPXO_IQXO-404
pins: 1 Standby, 2 GND, 3 Output, 4 +Vs

## 830207390509
designator Y?, comment 32.768kHz, 3.3V  (value not drawn)
WE-SPXO Simple Packaged Quartz Oscillator, SMT, CFPS-109, 32.768kHz, 3.3V; Manufacturer Part Number: 830207390509; Manufacturer: Wurth Elektronik; Frequency Stability: +/-30ppm; ComponentLink1Description: Website Link; ComponentLink1URL: https://www.we-online.com/redexpert/article/830207390509?ad; ComponentLink2Description: Datasheet Link; ComponentLink2URL: https://www.we-online.com/redexpert/spec/830207390509?ad; Category: Oscillators; Match Code: WE-SPXO; Mount: Surface Mount; Operating Temperature Max: 85°C; Operating Temperature Min: -40°C; Packaging: Tape and Reel; Case/Size Code: CFPS-109; Length: 2.6mm; Width: 2.1mm; Height: 0.95mm; Frequency: 32.768kHz; Supply Voltage: 3.3V
footprint WE-SPXO_CFPS-109
pins: 1 Standby, 2 GND, 3 Output, 4 +Vs

## 830207511509
designator Y?, comment 125MHz, 2.5V  (value not drawn)
WE-SPXO Simple Packaged Quartz Oscillator, SMT, IQXO-618-25, 125MHz, 2.5V; Manufacturer Part Number: 830207511509; Manufacturer: Wurth Elektronik; Frequency Stability: +/-50ppm; ComponentLink1Description: Website Link; ComponentLink1URL: https://www.we-online.com/redexpert/article/830207511509?ad; ComponentLink2Description: Datasheet Link; ComponentLink2URL: https://www.we-online.com/redexpert/spec/830207511509?ad; Category: Oscillators; Match Code: WE-SPXO; Mount: Surface Mount; Operating Temperature Max: 105°C; Operating Temperature Min: -40°C; Packaging: Tape and Reel; Case/Size Code: IQXO-618-25; Length: 3.2mm; Width: 2.5mm; Height: 1.1mm; Frequency: 125MHz; Supply Voltage: 2.5V
footprint WE-SPXO_IQXO-618-25
pins: 1 Standby, 2 NC, 3 GND, 4 Output+, 5 Output-, 6 +VS

## 830207647309
designator Y?, comment 11.0592MHz, 3.3V  (value not drawn)
WE-SPXO Simple Packaged Quartz Oscillator, SMT, CFPS-39, 11.0592MHz, 3.3V; Manufacturer Part Number: 830207647309; Manufacturer: Wurth Elektronik; Frequency Stability: +/-25ppm; ComponentLink1Description: Website Link; ComponentLink1URL: https://www.we-online.com/redexpert/article/830207647309?ad; ComponentLink2Description: Datasheet Link; ComponentLink2URL: https://www.we-online.com/redexpert/spec/830207647309?ad; Category: Oscillators; Match Code: WE-SPXO; Mount: Surface Mount; Operating Temperature Max: 85°C; Operating Temperature Min: -40°C; Packaging: Tape and Reel; Case/Size Code: CFPS-39; Length: 3.2mm; Width: 2.5mm; Height: 1.2mm; Frequency: 11.0592MHz; Supply Voltage: 3.3V
footprint WE-SPXO_CFPS-39
pins: 1 Enable, 2 GND, 3 Output, 4 +Vs

## 830207658809
designator Y?, comment 18.432MHz, 3.3V  (value not drawn)
WE-SPXO Simple Packaged Quartz Oscillator, SMT, CFPS-39, 18.432MHz, 3.3V; Manufacturer Part Number: 830207658809; Manufacturer: Wurth Elektronik; Frequency Stability: +/-25ppm; ComponentLink1Description: Website Link; ComponentLink1URL: https://www.we-online.com/redexpert/article/830207658809?ad; ComponentLink2Description: Datasheet Link; ComponentLink2URL: https://www.we-online.com/redexpert/spec/830207658809?ad; Category: Oscillators; Match Code: WE-SPXO; Mount: Surface Mount; Operating Temperature Max: 85°C; Operating Temperature Min: -40°C; Packaging: Tape and Reel; Case/Size Code: CFPS-39; Length: 3.2mm; Width: 2.5mm; Height: 1.2mm; Frequency: 18.432MHz; Supply Voltage: 3.3V
footprint WE-SPXO_CFPS-39
pins: 1 Enable, 2 GND, 3 Output, 4 +Vs

## 830207659009
designator Y?, comment 22.5792MHz, 3.3V  (value not drawn)
WE-SPXO Simple Packaged Quartz Oscillator, SMT, CFPS-39, 22.5792MHz, 3.3V; Manufacturer Part Number: 830207659009; Manufacturer: Wurth Elektronik; Frequency Stability: +/-25ppm; ComponentLink1Description: Website Link; ComponentLink1URL: https://www.we-online.com/redexpert/article/830207659009?ad; ComponentLink2Description: Datasheet Link; ComponentLink2URL: https://www.we-online.com/redexpert/spec/830207659009?ad; Category: Oscillators; Match Code: WE-SPXO; Mount: Surface Mount; Operating Temperature Max: 85°C; Operating Temperature Min: -40°C; Packaging: Tape and Reel; Case/Size Code: CFPS-39; Length: 3.2mm; Width: 2.5mm; Height: 1.2mm; Frequency: 22.5792MHz; Supply Voltage: 3.3V
footprint WE-SPXO_CFPS-39
pins: 1 Enable, 2 GND, 3 Output, 4 +Vs

## 830207659209
designator Y?, comment 24.576MHz, 3.3V  (value not drawn)
WE-SPXO Simple Packaged Quartz Oscillator, SMT, CFPS-39, 24.576MHz, 3.3V; Manufacturer Part Number: 830207659209; Manufacturer: Wurth Elektronik; Frequency Stability: +/-25ppm; ComponentLink1Description: Website Link; ComponentLink1URL: https://www.we-online.com/redexpert/article/830207659209?ad; ComponentLink2Description: Datasheet Link; ComponentLink2URL: https://www.we-online.com/redexpert/spec/830207659209?ad; Category: Oscillators; Match Code: WE-SPXO; Mount: Surface Mount; Operating Temperature Max: 85°C; Operating Temperature Min: -40°C; Packaging: Tape and Reel; Case/Size Code: CFPS-39; Length: 3.2mm; Width: 2.5mm; Height: 1.2mm; Frequency: 24.576MHz; Supply Voltage: 3.3V
footprint WE-SPXO_CFPS-39
pins: 1 Enable, 2 GND, 3 Output, 4 +Vs

## 830207659609
designator Y?, comment 48MHz, 3.3V  (value not drawn)
WE-SPXO Simple Packaged Quartz Oscillator, SMT, CFPS-39, 48MHz, 3.3V; Manufacturer Part Number: 830207659609; Manufacturer: Wurth Elektronik; Frequency Stability: +/-25ppm; ComponentLink1Description: Website Link; ComponentLink1URL: https://www.we-online.com/redexpert/article/830207659609?ad; ComponentLink2Description: Datasheet Link; ComponentLink2URL: https://www.we-online.com/redexpert/spec/830207659609?ad; Category: Oscillators; Match Code: WE-SPXO; Mount: Surface Mount; Operating Temperature Max: 85°C; Operating Temperature Min: -40°C; Packaging: Tape and Reel; Case/Size Code: CFPS-39; Length: 3.2mm; Width: 2.5mm; Height: 1.2mm; Frequency: 48MHz; Supply Voltage: 3.3V
footprint WE-SPXO_CFPS-39
pins: 1 Enable, 2 GND, 3 Output, 4 +Vs

## 830207670409
designator Y?, comment 54MHz, 3.3V  (value not drawn)
WE-SPXO Simple Packaged Quartz Oscillator, SMT, CFPS-39, 54MHz, 3.3V; Manufacturer Part Number: 830207670409; Manufacturer: Wurth Elektronik; Frequency Stability: +/-25ppm; ComponentLink1Description: Website Link; ComponentLink1URL: https://www.we-online.com/redexpert/article/830207670409?ad; ComponentLink2Description: Datasheet Link; ComponentLink2URL: https://www.we-online.com/redexpert/spec/830207670409?ad; Category: Oscillators; Match Code: WE-SPXO; Mount: Surface Mount; Operating Temperature Max: 85°C; Operating Temperature Min: -40°C; Packaging: Tape and Reel; Case/Size Code: CFPS-39; Length: 3.2mm; Width: 2.5mm; Height: 1.2mm; Frequency: 54MHz; Supply Voltage: 3.3V
footprint WE-SPXO_CFPS-39
pins: 1 Enable, 2 GND, 3 Output, 4 +Vs

## 830207670609
designator Y?, comment 80MHz, 3.3V  (value not drawn)
WE-SPXO Simple Packaged Quartz Oscillator, SMT, CFPS-39, 80MHz, 3.3V; Manufacturer Part Number: 830207670609; Manufacturer: Wurth Elektronik; Frequency Stability: +/-25ppm; ComponentLink1Description: Website Link; ComponentLink1URL: https://www.we-online.com/redexpert/article/830207670609?ad; ComponentLink2Description: Datasheet Link; ComponentLink2URL: https://www.we-online.com/redexpert/spec/830207670609?ad; Category: Oscillators; Match Code: WE-SPXO; Mount: Surface Mount; Operating Temperature Max: 85°C; Operating Temperature Min: -40°C; Packaging: Tape and Reel; Case/Size Code: CFPS-39; Length: 3.2mm; Width: 2.5mm; Height: 1.2mm; Frequency: 80MHz; Supply Voltage: 3.3V
footprint WE-SPXO_CFPS-39
pins: 1 Enable, 2 GND, 3 Output, 4 +Vs

## 830207670909
designator Y?, comment 125MHz, 3.3V  (value not drawn)
WE-SPXO Simple Packaged Quartz Oscillator, SMT, CFPS-39, 125MHz, 3.3V; Manufacturer Part Number: 830207670909; Manufacturer: Wurth Elektronik; Frequency Stability: +/-25ppm; ComponentLink1Description: Website Link; ComponentLink1URL: https://www.we-online.com/redexpert/article/830207670909?ad; ComponentLink2Description: Datasheet Link; ComponentLink2URL: https://www.we-online.com/redexpert/spec/830207670909?ad; Category: Oscillators; Match Code: WE-SPXO; Mount: Surface Mount; Operating Temperature Max: 85°C; Operating Temperature Min: -40°C; Packaging: Tape and Reel; Case/Size Code: CFPS-39; Length: 3.2mm; Width: 2.5mm; Height: 1.2mm; Frequency: 125MHz; Supply Voltage: 3.3V
footprint WE-SPXO_CFPS-39
pins: 1 Enable, 2 GND, 3 Output, 4 +Vs

## 830208197509
designator Y?, comment 14.31818MHz, 3.3V  (value not drawn)
WE-SPXO Simple Packaged Quartz Oscillator, SMT, CFPS-39, 14.31818MHz, 3.3V; Manufacturer Part Number: 830208197509; Manufacturer: Wurth Elektronik; Frequency Stability: +/-25ppm; ComponentLink1Description: Website Link; ComponentLink1URL: https://www.we-online.com/redexpert/article/830208197509?ad; ComponentLink2Description: Datasheet Link; ComponentLink2URL: https://www.we-online.com/redexpert/spec/830208197509?ad; Category: Oscillators; Match Code: WE-SPXO; Mount: Surface Mount; Operating Temperature Max: 85°C; Operating Temperature Min: -40°C; Packaging: Tape and Reel; Case/Size Code: CFPS-39; Length: 3.2mm; Width: 2.5mm; Height: 1.2mm; Frequency: 14.31818MHz; Supply Voltage: 3.3V
footprint WE-SPXO_CFPS-39
pins: 1 Enable, 2 GND, 3 Output, 4 +Vs

## 830208214609
designator Y?, comment 4MHz, 3.3V  (value not drawn)
WE-SPXO Simple Packaged Quartz Oscillator, SMT, IQXO-540, 4MHz, 3.3V; Manufacturer Part Number: 830208214609; Manufacturer: Wurth Elektronik; Frequency Stability: +/-25ppm; ComponentLink1Description: Website Link; ComponentLink1URL: https://www.we-online.com/redexpert/article/830208214609?ad; ComponentLink2Description: Datasheet Link; ComponentLink2URL: https://www.we-online.com/redexpert/spec/830208214609?ad; Category: Oscillators; Match Code: WE-SPXO; Mount: Surface Mount; Operating Temperature Max: 70°C; Operating Temperature Min: -20°C; Packaging: Tape and Reel; Case/Size Code: IQXO-540; Length: 2mm; Width: 1.6mm; Height: 0.7mm; Frequency: 4MHz; Supply Voltage: 3.3V
footprint WE-SPXO_IQXO-540
pins: 1 Standby, 2 GND, 3 Output, 4 +Vs

## 830208214709
designator Y?, comment 8MHz, 3.3V  (value not drawn)
WE-SPXO Simple Packaged Quartz Oscillator, SMT, IQXO-540, 8MHz, 3.3V; Manufacturer Part Number: 830208214709; Manufacturer: Wurth Elektronik; Frequency Stability: +/-25ppm; ComponentLink1Description: Website Link; ComponentLink1URL: https://www.we-online.com/redexpert/article/830208214709?ad; ComponentLink2Description: Datasheet Link; ComponentLink2URL: https://www.we-online.com/redexpert/spec/830208214709?ad; Category: Oscillators; Match Code: WE-SPXO; Mount: Surface Mount; Operating Temperature Max: 70°C; Operating Temperature Min: -20°C; Packaging: Tape and Reel; Case/Size Code: IQXO-540; Length: 2mm; Width: 1.6mm; Height: 0.7mm; Frequency: 8MHz; Supply Voltage: 3.3V
footprint WE-SPXO_IQXO-540
pins: 1 Standby, 2 GND, 3 Output, 4 +Vs

## 830208214809
designator Y?, comment 12MHz, 3.3V  (value not drawn)
WE-SPXO Simple Packaged Quartz Oscillator, SMT, IQXO-540, 12MHz, 3.3V; Manufacturer Part Number: 830208214809; Manufacturer: Wurth Elektronik; Frequency Stability: +/-25ppm; ComponentLink1Description: Website Link; ComponentLink1URL: https://www.we-online.com/redexpert/article/830208214809?ad; ComponentLink2Description: Datasheet Link; ComponentLink2URL: https://www.we-online.com/redexpert/spec/830208214809?ad; Category: Oscillators; Match Code: WE-SPXO; Mount: Surface Mount; Operating Temperature Max: 70°C; Operating Temperature Min: -20°C; Packaging: Tape and Reel; Case/Size Code: IQXO-540; Length: 2mm; Width: 1.6mm; Height: 0.7mm; Frequency: 12MHz; Supply Voltage: 3.3V
footprint WE-SPXO_IQXO-540
pins: 1 Standby, 2 GND, 3 Output, 4 +Vs

## 830208214909
designator Y?, comment 12.288MHz, 3.3V  (value not drawn)
WE-SPXO Simple Packaged Quartz Oscillator, SMT, IQXO-540, 12.288MHz, 3.3V; Manufacturer Part Number: 830208214909; Manufacturer: Wurth Elektronik; Frequency Stability: +/-25ppm; ComponentLink1Description: Website Link; ComponentLink1URL: https://www.we-online.com/redexpert/article/830208214909?ad; ComponentLink2Description: Datasheet Link; ComponentLink2URL: https://www.we-online.com/redexpert/spec/830208214909?ad; Category: Oscillators; Match Code: WE-SPXO; Mount: Surface Mount; Operating Temperature Max: 70°C; Operating Temperature Min: -20°C; Packaging: Tape and Reel; Case/Size Code: IQXO-540; Length: 2mm; Width: 1.6mm; Height: 0.7mm; Frequency: 12.288MHz; Supply Voltage: 3.3V
footprint WE-SPXO_IQXO-540
pins: 1 Standby, 2 GND, 3 Output, 4 +Vs

## 830208215009
designator Y?, comment 19.2MHz, 3.3V  (value not drawn)
WE-SPXO Simple Packaged Quartz Oscillator, SMT, IQXO-540, 19.2MHz, 3.3V; Manufacturer Part Number: 830208215009; Manufacturer: Wurth Elektronik; Frequency Stability: +/-25ppm; ComponentLink1Description: Website Link; ComponentLink1URL: https://www.we-online.com/redexpert/article/830208215009?ad; ComponentLink2Description: Datasheet Link; ComponentLink2URL: https://www.we-online.com/redexpert/spec/830208215009?ad; Category: Oscillators; Match Code: WE-SPXO; Mount: Surface Mount; Operating Temperature Max: 70°C; Operating Temperature Min: -20°C; Packaging: Tape and Reel; Case/Size Code: IQXO-540; Length: 2mm; Width: 1.6mm; Height: 0.7mm; Frequency: 19.2MHz; Supply Voltage: 3.3V
footprint WE-SPXO_IQXO-540
pins: 1 Standby, 2 GND, 3 Output, 4 +Vs

## 830208215109
designator Y?, comment 24MHz, 3.3V  (value not drawn)
WE-SPXO Simple Packaged Quartz Oscillator, SMT, IQXO-540, 24MHz, 3.3V; Manufacturer Part Number: 830208215109; Manufacturer: Wurth Elektronik; Frequency Stability: +/-25ppm; ComponentLink1Description: Website Link; ComponentLink1URL: https://www.we-online.com/redexpert/article/830208215109?ad; ComponentLink2Description: Datasheet Link; ComponentLink2URL: https://www.we-online.com/redexpert/spec/830208215109?ad; Category: Oscillators; Match Code: WE-SPXO; Mount: Surface Mount; Operating Temperature Max: 70°C; Operating Temperature Min: -20°C; Packaging: Tape and Reel; Case/Size Code: IQXO-540; Length: 2mm; Width: 1.6mm; Height: 0.7mm; Frequency: 24MHz; Supply Voltage: 3.3V
footprint WE-SPXO_IQXO-540
pins: 1 Standby, 2 GND, 3 Output, 4 +Vs

## 830208215209
designator Y?, comment 24.576MHz, 3.3V  (value not drawn)
WE-SPXO Simple Packaged Quartz Oscillator, SMT, IQXO-540, 24.576MHz, 3.3V; Manufacturer Part Number: 830208215209; Manufacturer: Wurth Elektronik; Frequency Stability: +/-25ppm; ComponentLink1Description: Website Link; ComponentLink1URL: https://www.we-online.com/redexpert/article/830208215209?ad; ComponentLink2Description: Datasheet Link; ComponentLink2URL: https://www.we-online.com/redexpert/spec/830208215209?ad; Category: Oscillators; Match Code: WE-SPXO; Mount: Surface Mount; Operating Temperature Max: 70°C; Operating Temperature Min: -20°C; Packaging: Tape and Reel; Case/Size Code: IQXO-540; Length: 2mm; Width: 1.6mm; Height: 0.7mm; Frequency: 24.576MHz; Supply Voltage: 3.3V
footprint WE-SPXO_IQXO-540
pins: 1 Standby, 2 GND, 3 Output, 4 +Vs

## 830208215309
designator Y?, comment 26MHz, 3.3V  (value not drawn)
WE-SPXO Simple Packaged Quartz Oscillator, SMT, IQXO-540, 26MHz, 3.3V; Manufacturer Part Number: 830208215309; Manufacturer: Wurth Elektronik; Frequency Stability: +/-25ppm; ComponentLink1Description: Website Link; ComponentLink1URL: https://www.we-online.com/redexpert/article/830208215309?ad; ComponentLink2Description: Datasheet Link; ComponentLink2URL: https://www.we-online.com/redexpert/spec/830208215309?ad; Category: Oscillators; Match Code: WE-SPXO; Mount: Surface Mount; Operating Temperature Max: 70°C; Operating Temperature Min: -20°C; Packaging: Tape and Reel; Case/Size Code: IQXO-540; Length: 2mm; Width: 1.6mm; Height: 0.7mm; Frequency: 26MHz; Supply Voltage: 3.3V
footprint WE-SPXO_IQXO-540
pins: 1 Standby, 2 GND, 3 Output, 4 +Vs

## 830208215409
designator Y?, comment 27MHz, 3.3V  (value not drawn)
WE-SPXO Simple Packaged Quartz Oscillator, SMT, IQXO-540, 27MHz, 3.3V; Manufacturer Part Number: 830208215409; Manufacturer: Wurth Elektronik; Frequency Stability: +/-25ppm; ComponentLink1Description: Website Link; ComponentLink1URL: https://www.we-online.com/redexpert/article/830208215409?ad; ComponentLink2Description: Datasheet Link; ComponentLink2URL: https://www.we-online.com/redexpert/spec/830208215409?ad; Category: Oscillators; Match Code: WE-SPXO; Mount: Surface Mount; Operating Temperature Max: 70°C; Operating Temperature Min: -20°C; Packaging: Tape and Reel; Case/Size Code: IQXO-540; Length: 2mm; Width: 1.6mm; Height: 0.7mm; Frequency: 27MHz; Supply Voltage: 3.3V
footprint WE-SPXO_IQXO-540
pins: 1 Standby, 2 GND, 3 Output, 4 +Vs

## 830208215509
designator Y?, comment 30MHz, 3.3V  (value not drawn)
WE-SPXO Simple Packaged Quartz Oscillator, SMT, IQXO-540, 30MHz, 3.3V; Manufacturer Part Number: 830208215509; Manufacturer: Wurth Elektronik; Frequency Stability: +/-25ppm; ComponentLink1Description: Website Link; ComponentLink1URL: https://www.we-online.com/redexpert/article/830208215509?ad; ComponentLink2Description: Datasheet Link; ComponentLink2URL: https://www.we-online.com/redexpert/spec/830208215509?ad; Category: Oscillators; Match Code: WE-SPXO; Mount: Surface Mount; Operating Temperature Max: 70°C; Operating Temperature Min: -20°C; Packaging: Tape and Reel; Case/Size Code: IQXO-540; Length: 2mm; Width: 1.6mm; Height: 0.7mm; Frequency: 30MHz; Supply Voltage: 3.3V
footprint WE-SPXO_IQXO-540
pins: 1 Standby, 2 GND, 3 Output, 4 +Vs